# Altium schematic symbol library SCR.Schlib: 1 symbol
Pins are listed as number, name and electrical type; pins without a type are passive.

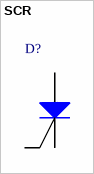
[diagram p0: symbol SCR]

## SCR
designator D?
pins: 1 K, 2 G, 3 A